# EAGLE library part FET-N/P (library Namenlos)
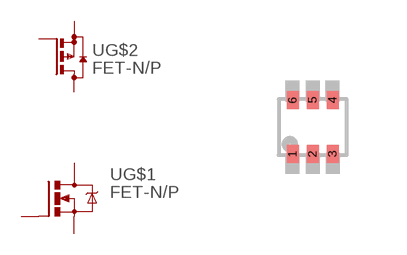
[diagram p26: symbol with the pads of SOT-563; footprint SOT-563]

Designator prefix -; gates G$1=FET-N G$2=FET-P

## FET-N/PNTZD3155C  [SOT-563]
1  G$1:S  pas
2  G$1:G  pas
3  G$2:D  pas
4  G$2:S  pas
5  G$2:G  pas
6  G$1:D  pas

## Footprint SOT-563 (pad centres in mm)
smd 0.3 x 0.45: 1 -0.5,-0.674; 2 0,-0.674; 3 0.5,-0.674; 4 0.5,0.674; 5 0,0.674; 6 -0.5,0.674